# EAGLE library part JST-ZH7 (library moteus_n1)
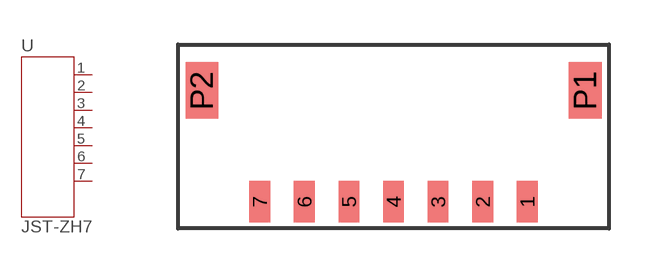
[diagram p3: symbol with the pads of JST_S7B-ZR-SM4A-TF(LF)(SN); footprint JST_S7B-ZR-SM4A-TF(LF)(SN)]

Designator prefix -

## JST-ZH7RA_SMT  [JST_S7B-ZR-SM4A-TF(LF)(SN)]
1  1  pas
2  2  pas
3  3  pas
4  4  pas
5  5  pas
6  6  pas
7  7  pas

## Footprint JST_S7B-ZR-SM4A-TF(LF)(SN) (pad centres in mm)
smd 0.7 x 1.4: 1 4.5,0; 2 3,0; 3 1.5,0; 4 0,0; 5 -1.5,0; 6 -3,0; 7 -4.5,0
smd 1.1 x 1.9: P1 6.45,3.75; P2 -6.45,3.75